# EAGLE library part INA210AIDCKRG4 (library 0_texas-instrument)
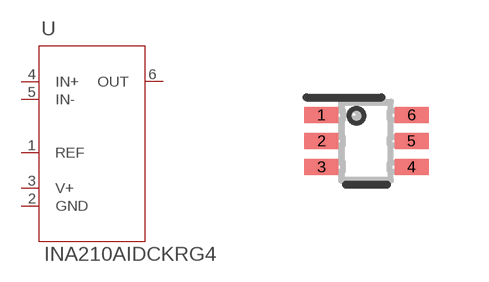
[diagram p3: symbol with the pads of DCK0006A_N; footprint DCK0006A_N]

Designator prefix U

## INA210AIDCKRG4 (ALTERNATEPARTNUMBER: INA210AIDCKT; APPLICATION_BUILDNUMBER: *; COMPTYPE: IC; MANUFACTURER: Texas Instruments; MOUNTTYPE: SMT; PACKAGEREFERENCE: DCK0006A; PARTNUMBER: INA210AIDCKR; PIN_COUNT: 6; REFDES: RefDes; ROHS: Y; TYPE: TYPE)  [DCK0006A_N]
1  REF  in
2  GND  pwr
3  V+  pwr
4  IN+  in
5  IN-  in
6  OUT  out

## Footprint DCK0006A_N (pad centres in mm)
smd 0.85 x 0.4: 1 -1.125,0.65; 2 -1.125,0; 3 -1.125,-0.65; 4 1.125,-0.65; 5 1.125,0; 6 1.125,0.65